# Altium schematic symbol library 2N7002-TP.SchLib: 2 symbols
Pins are listed as number, name and electrical type; pins without a type are passive.

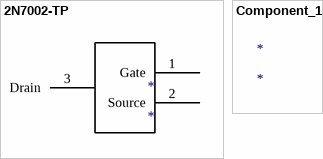
[diagram p0: symbols 2N7002-TP to Component_1]

## 2N7002-TP
designator *
pins: 1 Gate, 2 Source, 3 Drain

## Component_1
designator *